# EAGLE library part ADA4841 (library Spectron2)
Low Power, Low Noise and Distortion, Rail-to-Rail Output Amplifier
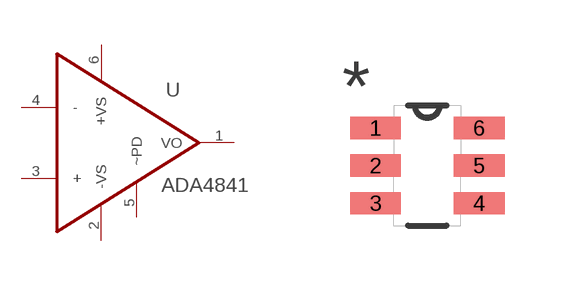
[diagram p1: symbol with the pads of SOT95P280X145-6N; footprint SOT95P280X145-6N]

Designator prefix U

## ADA4841 (MPN: ADA4841-1YRJZ-R2; OC_FARNELL: 1838874; OC_NEWARK: 59K0892; PACKAGE: SOT-23-6; SUPPLIER: Analog Devices)  [SOT95P280X145-6N]
1  VO  out
2  -VS  pwr
3  +  in
4  -  in
5  ~PD  in
6  +VS  pwr

## Footprint SOT95P280X145-6N (pad centres in mm)
smd 1.27 x 0.559: 1 -1.295,0.94; 2 -1.295,0; 3 -1.295,-0.94; 4 1.295,-0.94; 5 1.295,0; 6 1.295,0.94